# Altium schematic symbol library PowerBoard.SchLib: 27 symbols
Pins are listed as number, name and electrical type; pins without a type are passive.

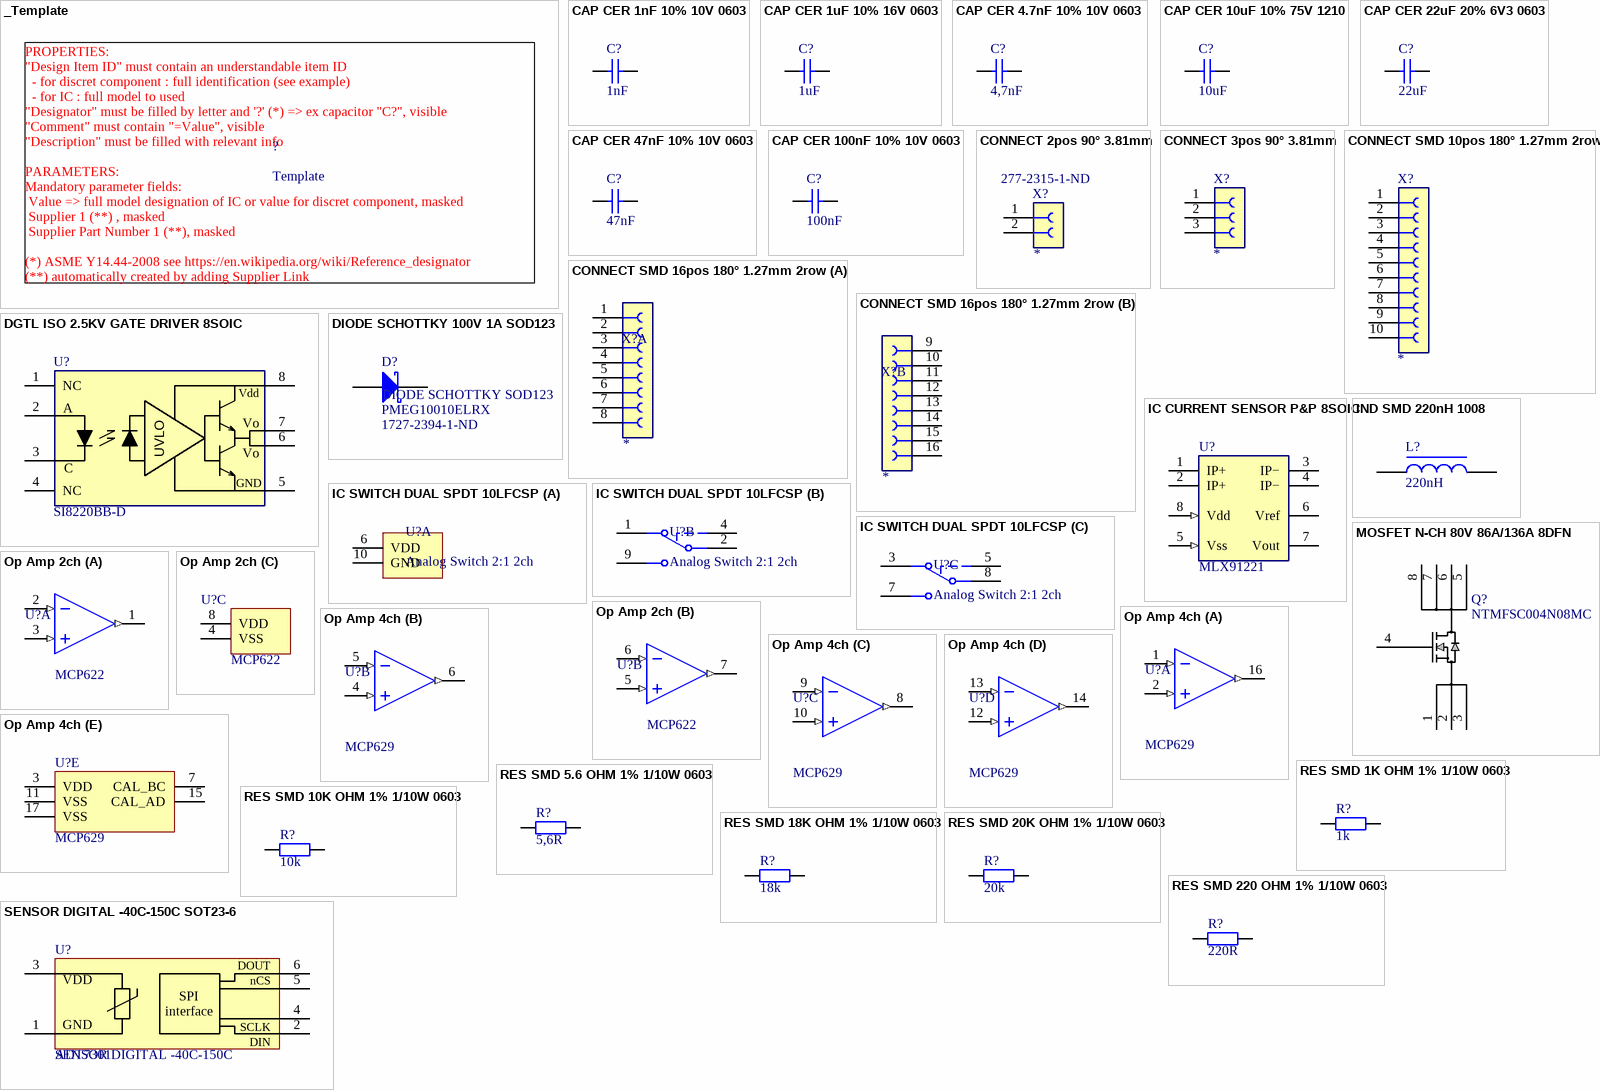
[diagram p0: symbols _Template to SENSOR DIGITAL -40C-150C SOT23-6]

## _Template
designator ?, comment Template
Template component; Value: Template
footprint _Template (Template component)
text: PROPERTIES: / "Design Item ID"	must contain an understandable item ID / - for discret component : full identification (see example) / - for IC : full model to used / "Designator"	must be filled by letter and '?' (*) => ex capacitor "C?", visible / "Comment"	must contain "=Value", visible / "Description"	must be filled with relevant info / PARAMETERS: / Mandatory parameter fields: / Value => full model designation of IC or value for discret component, masked / Supplier 1 (**) , masked / Supplier Part Number 1 (**), masked / (*) ASME Y14.44-2008 see https://en.wikipedia.org/wiki/Reference_designator / (**) automatically created by adding Supplier Link /

## CAP CER 1nF 10% 10V 0603
designator C?, comment value 1nF  (hidden comment: CAP CER 1nF 0603)
1nF ±10% 10V Condensateurs céramique X7R 0603 (1608 métrique); Supplier 1: Digi-Key; Supplier Part Number 1: 399-8984-1-ND
footprint CAPC1608X08N (Chip Capacitor, 2-Leads, Body 1.60x0.80mm, IPC Medium Density)
pins: 1, 2

## CAP CER 1uF 10% 16V 0603
designator C?, comment value 1uF  (hidden comment: CAP CER 1uF 0603)
1µF ±10% 16V Condensateurs céramique X7R 0603 (1608 métrique); Supplier 1: Digi-Key; Supplier Part Number 1: 399-7847-1-ND
footprint CAPC1608X08N (Chip Capacitor, 2-Leads, Body 1.60x0.80mm, IPC Medium Density)
pins: 1, 2

## CAP CER 4.7nF 10% 10V 0603
designator C?, comment value 4,7nF  (hidden comment: CAP CER 4.7nF 0603)
4,7nF ±10% 10V Condensateurs céramique X7R 0603 (1608 métrique); Supplier 1: Digi-Key; Supplier Part Number 1: 399-9092-1-ND
footprint CAPC1608X08N (Chip Capacitor, 2-Leads, Body 1.60x0.80mm, IPC Medium Density)
pins: 1, 2

## CAP CER 10uF 10% 75V 1210
designator C?, comment value 10uF  (hidden comment: CAP CER 10uF 1210)
10µF ±10% 75V Condensateurs céramique X7R 1210 (3225 métrique); Supplier 1: Digi-Key; Supplier Part Number 1: 445-181658-1-ND
footprint CAPC3226X25N (Chip Capacitor, 2-Leads, Body 3.22x2.55mm, IPC Medium Density)
pins: 1, 2

## CAP CER 22uF 20% 6V3 0603
designator C?, comment value 22uF  (hidden comment: CAP CER 22uF 0603)
22µF ±20% 6,3V Condensateurs céramique X5R 0603 (1608 métrique); Supplier 1: Digi-Key; Supplier Part Number 1: 399-14498-1-ND
footprint CAPC1608X08N (Chip Capacitor, 2-Leads, Body 1.60x0.80mm, IPC Medium Density)
pins: 1, 2

## CAP CER 47nF 10% 10V 0603
designator C?, comment value 47nF  (hidden comment: CAP CER 47nF 0603)
47nF ±10% 10V Condensateurs céramique X7R 0603 (1608 métrique); Supplier 1: Mouser; Supplier Part Number 1: 80-C0603C473K8R
footprint CAPC1608X08N (Chip Capacitor, 2-Leads, Body 1.60x0.80mm, IPC Medium Density)
pins: 1, 2

## CAP CER 100nF 10% 10V 0603
designator C?, comment value 100nF  (hidden comment: CAP CER 100nF 0603)
0,1µF ±10% 10V Condensateurs céramique X7R 0603 (1608 métrique); Supplier 1: Digi-Key; Supplier Part Number 1: 399-1095-1-ND
footprint CAPC1608X08N (Chip Capacitor, 2-Leads, Body 1.60x0.80mm, IPC Medium Density)
pins: 1, 2

## CONNECT 2pos 90° 3.81mm
designator X?, comment Supplier Part Number 1: 277-2315-1-ND  (hidden comment: CONNECT 2pos 90°)
2 Positions, bloc de jonction Embase, broche mâle, gainée (4 côtés) 0,150 po (3,81mm) 90°, engle droit Trou traversant; Value: WR-TBL322; Supplier 1: Digi-Key; Use: *
footprint CONNECT2PIN
pins: 1, 2

## CONNECT 3pos 90° 3.81mm
designator X?, comment CONNECT 3pos 90°  (value not drawn)
3 Positions, bloc de jonction Embase, broche mâle, gainée (4 côtés) 0,150 po (3,81mm) 90°, engle droit Trou traversant; Value: WR-TBL322; Supplier 1: Digi-Key; Supplier Part Number 1: 277-2316-1-ND; Use: *
footprint CONNECT3PIN
pins: 1, 2, 3

## CONNECT SMD 10pos 180° 1.27mm 2row
designator X?, comment CONNECT SMD 10pos 2row 180°  (value not drawn)
Value: 62301021021; Supplier 1: RSComponents; Supplier Part Number 1: 2053195; Use: *
footprint 62301021021 (Socket Header, Pitch 1.27 mm, SMT, Vertical, dual row, 10p)
pins: 1, 2, 3, 4, 5, 6, 7, 8, 9, 10

## CONNECT SMD 16pos 180° 1.27mm 2row
designator X?, comment CONNECT SMD 16pos 2row 180°  (value not drawn)
Value: 62301621021; Supplier 1: Newark; Supplier Part Number 1: 47AC7230; Use: *
footprint 62301621021 (Socket Header, Pitch 1.27 mm, SMT, Vertical, dual row, 16p)
part A pins: 1, 2, 3, 4, 5, 6, 7, 8
part B pins: 9, 10, 11, 12, 13, 14, 15, 16

## DGTL ISO 2.5KV GATE DRIVER 8SOIC
designator U?, comment value SI8220BB-D  (hidden comment: GATE DRIVER 2.5A)
2.5A Gate Driver Capacitive Coupling 2500Vrms 1 Channel 8SOIC; Supplier 1: Newark; Supplier Part Number 1: 66AH7002
footprint SOIC127P600X175-8N (SOIC, 8-Leads, Body 4.90x3.90mm, Pitch 1.27mm, IPC Medium Density)
pins: 1 NC, 2 Anode, 3 Cathode, 4 NC, 5 Vss, 6 Vo, 7 Vo, 8 Vdd
text: A; UVLO; C; GND

## DIODE SCHOTTKY 100V 1A SOD123
designator D?, comment DIODE SCHOTTKY SOD123  value PMEG10010ELRX  Supplier Part Number 1: 1727-2394-1-ND
Diode Schottky 100V 1A Montage en surface CFP3; Supplier 1: Digi-Key
footprint DIOM2617X11N (Molded Diode, 2-Leads, Body 2.60x1.70mm, IPC Medium Density)
pins: 1 K, 2 A

## IC CURRENT SENSOR P&P 8SOIC
designator U?, comment value MLX91221  (hidden comment: IC CURRENT SENSOR)
Current Sensor 20A 1 Channel Hall Effect Bidirectional 8-SOIC (0.154", 3.90mm Width); Supplier 1: Digi-Key; Supplier Part Number 1: 413-MLX91221KDC-ABF-025-SP-ND
footprint SOIC127P600X173-8N (SOIC, 8-Leads, Body 4.89x3.90mm, Pitch 1.27mm, IPC Medium Density)
pins: 1 IP+, 2 IP+, 3 IP−, 4 IP−, 5 Vss (in), 6 Vref, 7 Vout, 8 Vdd (in)

## IC SWITCH DUAL SPDT 10LFCSP
designator U?, comment Analog Switch 2:1 2ch
2 Circuits, circuit intégré, commutateur 2:1 850mOhms 10-LFCSP-UQ (1,6x1,3); Value: ADG854BCPZ
footprint QFN40P130X160X60-10N (QFN, 10-Leads, Body 1.30x1.60mm, Pitch 0.40mm, IPC Medium Density)
part A pins: 6 VDD (power), 10 GND (power)
part B pins: 1 S1A (power), 2 D1 (power), 4 IN1 (power), 9 S2A (power)
part C pins: 3 S1B (power), 5 IN2 (power), 7 S2B (power), 8 D2 (power)

## IND SMD 220nH 1008
designator L?  value 220nH  (hidden comment: IND SMD 220nH 1008)
footprint INDC2520X10N (Chip Inductor, 2-Leads, Body 2.50x2.00mm, IPC Medium Density)
pins: 1, 2

## MOSFET N-CH 80V 86A/136A 8DFN
designator Q?, comment value NTMFSC004N08MC  (hidden comment: MOSFET N-CH 80V)
Canal N 80V 86A (Ta), 136A (Tc) 51W (Ta), 127W (Tc) Montage en surface 8-DFN (5,1x6,15); Supplier 1: Digi-Key; Supplier Part Number 1: 488-NTMFSC004N08MCCT-ND
footprint DFN8_506EG_ONS
pins: 1, 2, 3, 4, 5, 6, 7, 8

## Op Amp 2ch
designator U?  value MCP622  (hidden comment: Op Amp 2ch)
Amplificateurs opérationnels - Amplis-Op Dual 20MHz OP Auto-cal E temp; ComponentLink1Description: Manufacturer Link; ComponentLink1URL: http://www.analog.com/
footprint QFN65P300X300X100_HS-9N (QFN, 8-Leads, Body 3.00x3.00mm, Pitch 0.65mm, Thermal Pad 1.55x2.40mm, IPC Medium Density)
part A pins: 1 OUT (out), 2 IN- (in), 3 IN+ (in)
part B pins: 5 IN+ (in), 6 IN- (in), 7 OUT (out)
part C pins: 4 VSS (power), 8 VDD (power)

## Op Amp 4ch
designator U?  value MCP629
FET Operational Amplifier; ComponentLink1Description: Manufacturer Link; ComponentLink1URL: http://www.analog.com/
footprint QFN65P400X400X100_HS-17N (QFN, 16-Leads, Body 4.00x4.00mm, Pitch 0.65mm, Thermal Pad 2.65x2.65mm, IPC Medium Density)
part A pins: 1 IN- (in), 2 IN+ (in), 16 OUT (out)
part B pins: 4 IN+ (in), 5 IN- (in), 6 OUT (out)
part C pins: 8 OUT (out), 9 IN- (in), 10 IN+ (in)
part D pins: 12 IN+ (in), 13 IN- (in), 14 OUT (out)
part E pins: 3 VDD (power), 7 CAL_BC (power), 11 VSS (power), 15 CAL_AD (power), 17 VSS (power)

## RES SMD 1K OHM 1% 1/10W 0603
designator R?, comment value 1k  (hidden comment: RES 1K SMD 0603)
1 kOhms ±1% 0,1W, 1/10W Pavé résistif 0603 (1608 métrique) AutomobileAEC-Q200 Couche épaisse; Supplier 1: Digi-Key; Supplier Part Number 1: RMCF0603FT1K00CT-ND
footprint RESC1508X04N (Chip Resistor, 2-Leads, Body 1.55x0.80mm, IPC Medium Density)
pins: 1, 2

## RES SMD 5.6 OHM 1% 1/10W 0603
designator R?, comment value 5,6R  (hidden comment: RES 5R6 SMD 0603)
5,6 Ohms ±1% 0,1W, 1/10W Pavé résistif 0603 (1608 métrique) AutomobileAEC-Q200 Couche épaisse; Supplier 1: DigiKey; Supplier Part Number 1: 738-RMCF0603FT5R60TR-ND
footprint RESC1508X04N (Chip Resistor, 2-Leads, Body 1.55x0.80mm, IPC Medium Density)
pins: 1, 2

## RES SMD 10K OHM 1% 1/10W 0603
designator R?, comment value 10k  (hidden comment: RES 10K SMD 0603)
10 kOhms ±1% 0,1W, 1/10W Pavé résistif 0603 (1608 métrique) AutomobileAEC-Q200 Couche épaisse; Supplier 1: Digi-Key; Supplier Part Number 1: RMCF0603FT10K0CT-ND
footprint RESC1508X04N (Chip Resistor, 2-Leads, Body 1.55x0.80mm, IPC Medium Density)
pins: 1, 2

## RES SMD 18K OHM 1% 1/10W 0603
designator R?, comment value 18k  (hidden comment: RES 18K SMD 0603)
18 kOhms ±1% 0,1W, 1/10W Pavé résistif 0603 (1608 métrique) AutomobileAEC-Q200 Couche épaisse; Supplier 1: Digi-Key; Supplier Part Number 1: RMCF0603FT18K0CT-ND
footprint RESC1508X04N (Chip Resistor, 2-Leads, Body 1.55x0.80mm, IPC Medium Density)
pins: 1, 2

## RES SMD 20K OHM 1% 1/10W 0603
designator R?, comment value 20k  (hidden comment: RES 20k SMD 0603)
20 kOhms ±1% 0,1W, 1/10W Pavé résistif 0603 (1608 métrique) AutomobileAEC-Q200 Couche épaisse; Supplier 1: Digi-Key; Supplier Part Number 1: RMCF0603FT20K0CT-ND
footprint RESC1508X04N (Chip Resistor, 2-Leads, Body 1.55x0.80mm, IPC Medium Density)
pins: 1, 2

## RES SMD 220 OHM 1% 1/10W 0603
designator R?, comment value 220R  (hidden comment: RES 220R SMD 0603)
220 Ohms ±1% 0,1W, 1/10W Pavé résistif 0603 (1608 métrique) AutomobileAEC-Q200 Couche épaisse; Supplier 1: Digi-Key; Supplier Part Number 1: RMCF0603FT220RCT-ND
footprint RESC1508X04N (Chip Resistor, 2-Leads, Body 1.55x0.80mm, IPC Medium Density)
pins: 1, 2

## SENSOR DIGITAL -40C-150C SOT23-6
designator U?, comment SENSOR DIGITAL -40C-150C  value ADT7301
Capteur de température Numérique, local -40°C ~ 150°C 13 b SOT-23-6; Supplier 1: Digi-Key; Supplier Part Number 1: ADT7301ARTZ-REEL7CT-ND
footprint SOT95P280X145-6N (SOT23, 6-Leads, Body 2.90x2.80mm, Pitch 0.95mm, IPC Medium Density)
pins: 1 GND (power), 2 DIN (power), 3 VDD (power), 4 SCLK (power), 5 nCS (power), 6 DOUT (power)
text: SPI; interface